# EAGLE library part TLE7469 (library infineon_tle_power)
Infineon TLE 7469 -Dual output 5 V (±2%), 320mA and 2.6 V1) (±4%), 300mA or 5 V (±2%), 320mA and 3.3 V (±3%), 300mA -Ultra low quiescent current consumption < 55 µA- Inhibit function -Very low dropout voltage -Reset with power-on delay -Early Warning comparator -Window watchdog -Power sequencing for dual voltage µC -Output protected against short circuit -Wide operation range: up to 45 V -Wide temperature range: -40 °C to 150 °C -Overtemperature protection -Overload protection Functional Description The TLE 7469 is a monolithic integrated voltage regulator with two voltage outputs specially designed to supply microcontrollers with dual supply voltage: 2.6 V1) or 3.3 V core and 5 V I/O voltage like the Infineon XC164 and XC161. ------------------------------------------ 1)2.5 V nominal specification range of most µCs is compatible with the 2.6 V output voltage range of the TLE 7469. ------------------------------------------ Type Ordering Code Package TLE 7469 GV52 Q67007-A9689 P-DSO-12-4 TLE 7469 GV53 Q67007-A9690 P-DSO-12-4
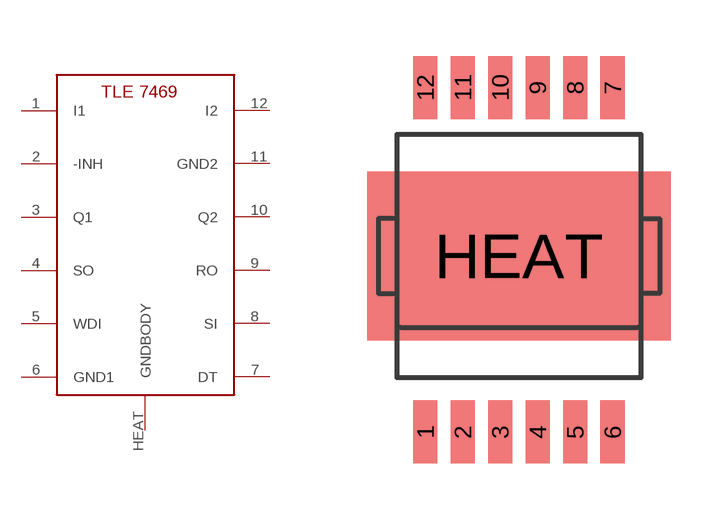
[diagram p0: symbol with the pads of P-DSO-12-4; footprint P-DSO-12-4]

Designator prefix -

## TLE7469GV53 (P1I: o)  [P-DSO-12-4]
1  I1  in
2  -INH  in
3  Q1  pwr
4  SO  oc
5  WDI  in
6  GND1  pwr
7  DT
8  SI  in
9  RO  out
10  Q2  pwr
11  GND2  pwr
12  I2  in
HEAT  GNDBODY  pwr

## Footprint P-DSO-12-4 (pad centres in mm)
smd 0.65 x 1.676: 1 -2.5,-4.7; 2 -1.5,-4.7; 3 -0.5,-4.7; 4 0.5,-4.7; 5 1.5,-4.7; 6 2.5,-4.7; 7 2.5,4.5; 8 1.5,4.5; 9 0.5,4.5; 10 -0.5,4.5; 11 -1.5,4.5; 12 -2.5,4.5
smd 8.1 x 4.5: HEAT 0,0